# EAGLE library part AT32UC3C0512 (library 1_spektrak)
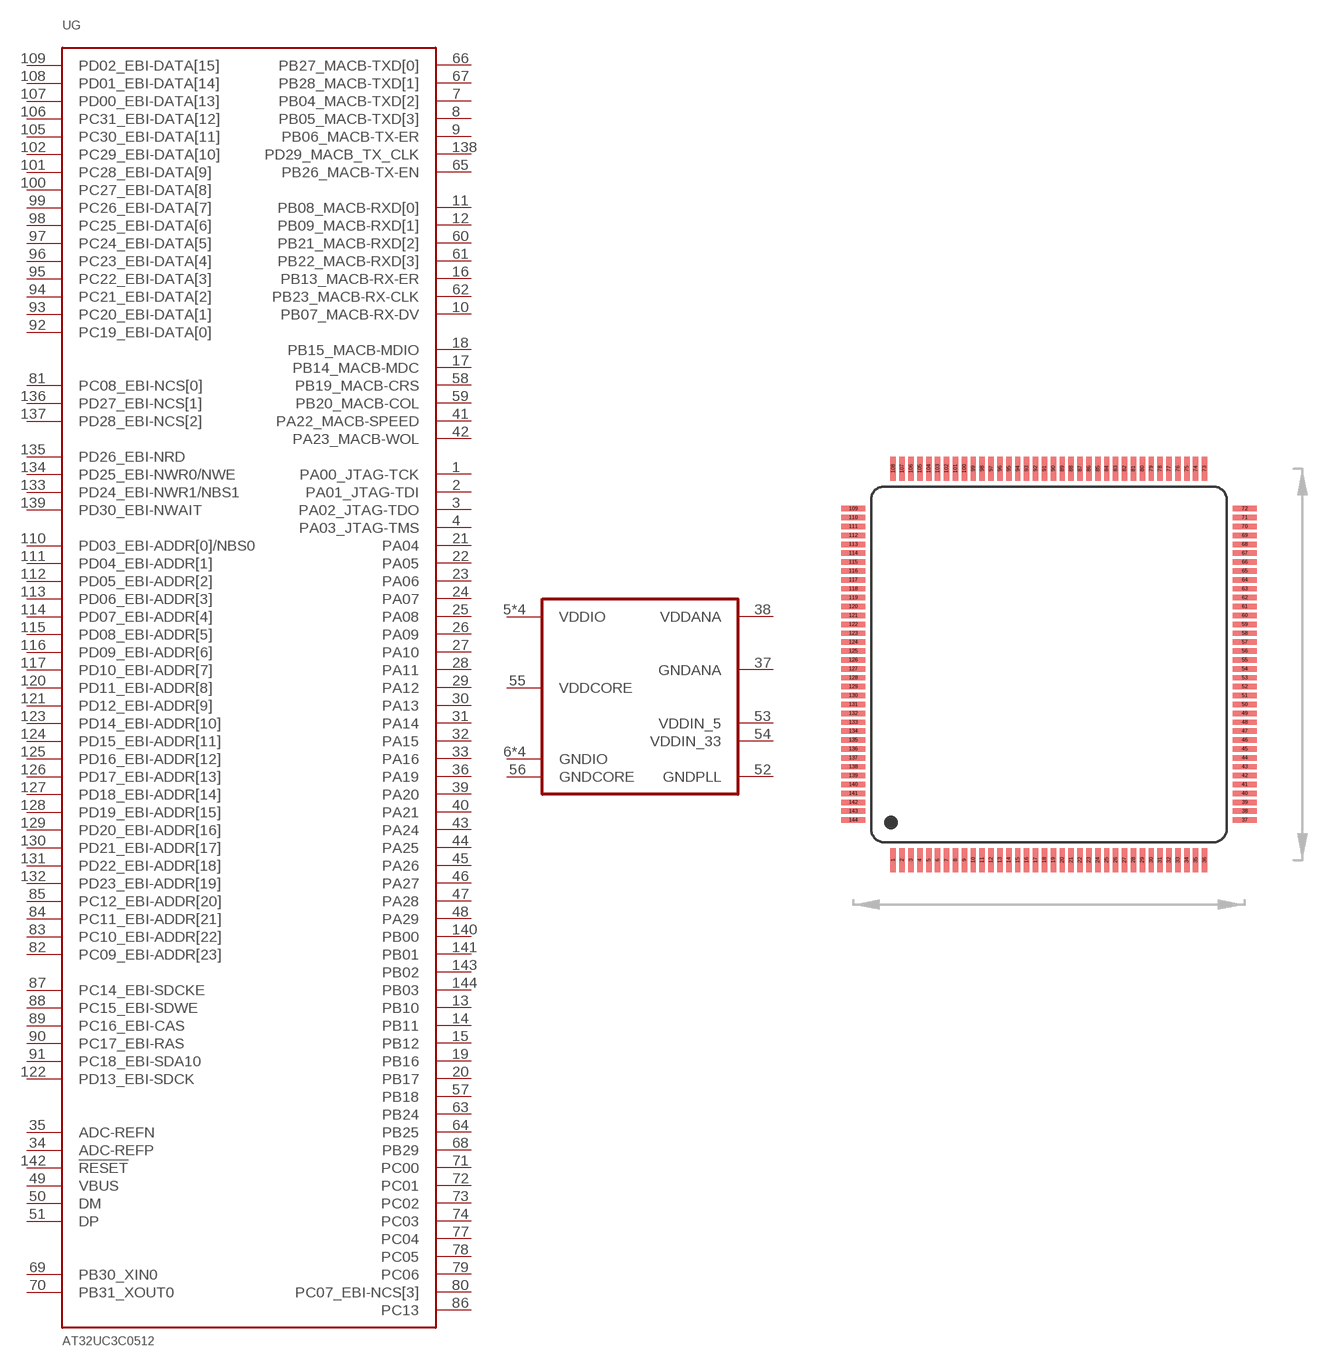
[diagram p7: symbol with the pads of LQFP144; footprint LQFP144]

Designator prefix U; gates P=PWR_MCU G=AT32UC3C0512

## AT32UC3C0512  [LQFP144]
1  G:PA00_JTAG-TCK
2  G:PA01_JTAG-TDI
3  G:PA02_JTAG-TDO
4  G:PA03_JTAG-TMS
5  P:VDDIO  pwr
6  P:GNDIO  pwr
7  G:PB04_MACB-TXD[2]
8  G:PB05_MACB-TXD[3]
9  G:PB06_MACB-TX-ER
10  G:PB07_MACB-RX-DV
11  G:PB08_MACB-RXD[0]
12  G:PB09_MACB-RXD[1]
13  G:PB10
14  G:PB11
15  G:PB12
16  G:PB13_MACB-RX-ER
17  G:PB14_MACB-MDC
18  G:PB15_MACB-MDIO
19  G:PB16
20  G:PB17
21  G:PA04
22  G:PA05
23  G:PA06
24  G:PA07
25  G:PA08
26  G:PA09
27  G:PA10
28  G:PA11
29  G:PA12
30  G:PA13
31  G:PA14
32  G:PA15
33  G:PA16
34  G:ADC-REFP  in
35  G:ADC-REFN  in
36  G:PA19
37  P:GNDANA  pwr
38  P:VDDANA  pwr
39  G:PA20
40  G:PA21
41  G:PA22_MACB-SPEED
42  G:PA23_MACB-WOL
43  G:PA24
44  G:PA25
45  G:PA26
46  G:PA27
47  G:PA28
48  G:PA29
49  G:VBUS
50  G:DM
51  G:DP
52  P:GNDPLL  pwr
53  P:VDDIN_5  pwr
54  P:VDDIN_33  pwr
55  P:VDDCORE  pwr
56  P:GNDCORE  pwr
57  G:PB18
58  G:PB19_MACB-CRS
59  G:PB20_MACB-COL
60  G:PB21_MACB-RXD[2]
61  G:PB22_MACB-RXD[3]
62  G:PB23_MACB-RX-CLK
63  G:PB24
64  G:PB25
65  G:PB26_MACB-TX-EN
66  G:PB27_MACB-TXD[0]
67  G:PB28_MACB-TXD[1]
68  G:PB29
69  G:PB30_XIN0
70  G:PB31_XOUT0
71  G:PC00
72  G:PC01
73  G:PC02
74  G:PC03
75  P:VDDIO  pwr
76  P:GNDIO  pwr
77  G:PC04
78  G:PC05
79  G:PC06
80  G:PC07_EBI-NCS[3]
81  G:PC08_EBI-NCS[0]
82  G:PC09_EBI-ADDR[23]
83  G:PC10_EBI-ADDR[22]
84  G:PC11_EBI-ADDR[21]
85  G:PC12_EBI-ADDR[20]
86  G:PC13
87  G:PC14_EBI-SDCKE
88  G:PC15_EBI-SDWE
89  G:PC16_EBI-CAS
90  G:PC17_EBI-RAS
91  G:PC18_EBI-SDA10
92  G:PC19_EBI-DATA[0]
93  G:PC20_EBI-DATA[1]
94  G:PC21_EBI-DATA[2]
95  G:PC22_EBI-DATA[3]
96  G:PC23_EBI-DATA[4]
97  G:PC24_EBI-DATA[5]
98  G:PC25_EBI-DATA[6]
99  G:PC26_EBI-DATA[7]
100  G:PC27_EBI-DATA[8]
101  G:PC28_EBI-DATA[9]
102  G:PC29_EBI-DATA[10]
103  P:VDDIO  pwr
104  P:GNDIO  pwr
105  G:PC30_EBI-DATA[11]
106  G:PC31_EBI-DATA[12]
107  G:PD00_EBI-DATA[13]
108  G:PD01_EBI-DATA[14]
109  G:PD02_EBI-DATA[15]
110  G:PD03_EBI-ADDR[0]/NBS0
111  G:PD04_EBI-ADDR[1]
112  G:PD05_EBI-ADDR[2]
113  G:PD06_EBI-ADDR[3]
114  G:PD07_EBI-ADDR[4]
115  G:PD08_EBI-ADDR[5]
116  G:PD09_EBI-ADDR[6]
117  G:PD10_EBI-ADDR[7]
118  P:VDDIO  pwr
119  P:GNDIO  pwr
120  G:PD11_EBI-ADDR[8]
121  G:PD12_EBI-ADDR[9]
122  G:PD13_EBI-SDCK
123  G:PD14_EBI-ADDR[10]
124  G:PD15_EBI-ADDR[11]
125  G:PD16_EBI-ADDR[12]
126  G:PD17_EBI-ADDR[13]
127  G:PD18_EBI-ADDR[14]
128  G:PD19_EBI-ADDR[15]
129  G:PD20_EBI-ADDR[16]
130  G:PD21_EBI-ADDR[17]
131  G:PD22_EBI-ADDR[18]
132  G:PD23_EBI-ADDR[19]
133  G:PD24_EBI-NWR1/NBS1
134  G:PD25_EBI-NWR0/NWE
135  G:PD26_EBI-NRD
136  G:PD27_EBI-NCS[1]
137  G:PD28_EBI-NCS[2]
138  G:PD29_MACB_TX_CLK
139  G:PD30_EBI-NWAIT
140  G:PB00
141  G:PB01
142  G:!RESET  in
143  G:PB02
144  G:PB03

## Footprint LQFP144 (pad centres in mm)
smd 0.305 x 1.346: 1 -8.75,-10.998; 2 -8.25,-10.998; 3 -7.75,-10.998; 4 -7.25,-10.998; 5 -6.75,-10.998; 6 -6.25,-10.998; 7 -5.75,-10.998; 8 -5.25,-10.998; 9 -4.75,-10.998; 10 -4.25,-10.998; 11 -3.75,-10.998; 12 -3.25,-10.998; 13 -2.75,-10.998; 14 -2.25,-10.998; 15 -1.75,-10.998; 16 -1.25,-10.998; 17 -0.75,-10.998; 18 -0.25,-10.998; 19 0.25,-10.998; 20 0.75,-10.998; 21 1.25,-10.998; 22 1.75,-10.998; 23 2.25,-10.998; 24 2.75,-10.998; 25 3.25,-10.998; 26 3.75,-10.998; 27 4.25,-10.998; 28 4.75,-10.998; 29 5.25,-10.998; 30 5.75,-10.998; 31 6.25,-10.998; 32 6.75,-10.998; 33 7.25,-10.998; 34 7.75,-10.998; 35 8.25,-10.998; 36 8.75,-10.998; 73 8.75,11.002; 74 8.25,11.002; 75 7.75,11.002; 76 7.25,11.002; 77 6.75,11.002; 78 6.25,11.002; 79 5.75,11.002; 80 5.25,11.002; 81 4.75,11.002; 82 4.25,11.002; 83 3.75,11.002; 84 3.25,11.002; 85 2.75,11.002; 86 2.25,11.002; 87 1.75,11.002; 88 1.25,11.002; 89 0.75,11.002; 90 0.25,11.002; 91 -0.25,11.002; 92 -0.75,11.002; 93 -1.25,11.002; 94 -1.75,11.002; 95 -2.25,11.002; 96 -2.75,11.002; 97 -3.25,11.002; 98 -3.75,11.002; 99 -4.25,11.002; 100 -4.75,11.002; 101 -5.25,11.002; 102 -5.75,11.002; 103 -6.25,11.002; 104 -6.75,11.002; 105 -7.25,11.002; 106 -7.75,11.002; 107 -8.25,11.002; 108 -8.75,11.002
smd 1.346 x 0.305: 37 11,-8.748; 38 11,-8.248; 39 11,-7.748; 40 11,-7.248; 41 11,-6.748; 42 11,-6.248; 43 11,-5.748; 44 11,-5.248; 45 11,-4.748; 46 11,-4.248; 47 11,-3.748; 48 11,-3.248; 49 11,-2.748; 50 11,-2.248; 51 11,-1.748; 52 11,-1.248; 53 11,-0.748; 54 11,-0.248; 55 11,0.252; 56 11,0.752; 57 11,1.252; 58 11,1.752; 59 11,2.252; 60 11,2.752; 61 11,3.252; 62 11,3.752; 63 11,4.252; 64 11,4.752; 65 11,5.252; 66 11,5.752; 67 11,6.252; 68 11,6.752; 69 11,7.252; 70 11,7.752; 71 11,8.252; 72 11,8.752; 109 -11,8.752; 110 -11,8.252; 111 -11,7.752; 112 -11,7.252; 113 -11,6.752; 114 -11,6.252; 115 -11,5.752; 116 -11,5.252; 117 -11,4.752; 118 -11,4.252; 119 -11,3.752; 120 -11,3.252; 121 -11,2.752; 122 -11,2.252; 123 -11,1.752; 124 -11,1.252; 125 -11,0.752; 126 -11,0.252; 127 -11,-0.248; 128 -11,-0.748; 129 -11,-1.248; 130 -11,-1.748; 131 -11,-2.248; 132 -11,-2.748; 133 -11,-3.248; 134 -11,-3.748; 135 -11,-4.248; 136 -11,-4.748; 137 -11,-5.248; 138 -11,-5.748; 139 -11,-6.248; 140 -11,-6.748; 141 -11,-7.248; 142 -11,-7.748; 143 -11,-8.248; 144 -11,-8.748